# Altium schematic symbol library SCH - MCU - SI LABS - SI LABS MGM240PA32VNA 36-PIN LGA 12.9X15.SchLib: 1 symbol
Pins are listed as number, name and electrical type; pins without a type are passive.

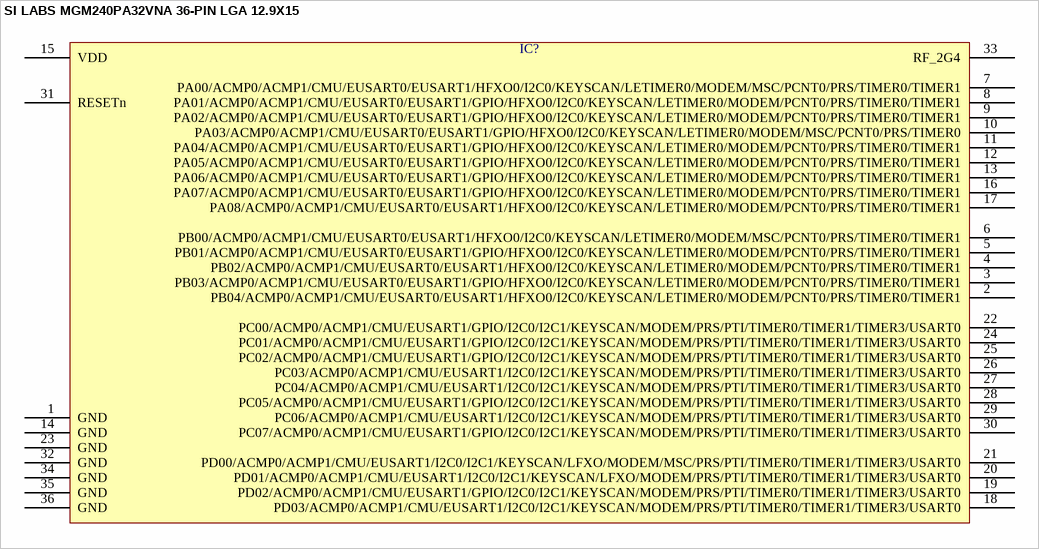
[diagram p0: symbol SI LABS MGM240PA32VNA 36-PIN LGA 12.9X15]

## SI LABS MGM240PA32VNA 36-PIN LGA 12.9X15
designator IC?  (value not drawn)
pins: 1 GND, 2 PB04/ACMP0/ACMP1/CMU/EUSART0/EUSART1/HFXO0/I2C0/KEYSCAN/LETIMER0/MODEM/PCNT0/PRS/TIMER0/TIMER1, 3 PB03/ACMP0/ACMP1/CMU/EUSART0/EUSART1/GPIO/HFXO0/I2C0/KEYSCAN/LETIMER0/MODEM/PCNT0/PRS/TIMER0/TIMER1, 4 PB02/ACMP0/ACMP1/CMU/EUSART0/EUSART1/HFXO0/I2C0/KEYSCAN/LETIMER0/MODEM/PCNT0/PRS/TIMER0/TIMER1, 5 PB01/ACMP0/ACMP1/CMU/EUSART0/EUSART1/GPIO/HFXO0/I2C0/KEYSCAN/LETIMER0/MODEM/PCNT0/PRS/TIMER0/TIMER1, 6 PB00/ACMP0/ACMP1/CMU/EUSART0/EUSART1/HFXO0/I2C0/KEYSCAN/LETIMER0/MODEM/MSC/PCNT0/PRS/TIMER0/TIMER1, 7 PA00/ACMP0/ACMP1/CMU/EUSART0/EUSART1/HFXO0/I2C0/KEYSCAN/LETIMER0/MODEM/MSC/PCNT0/PRS/TIMER0/TIMER1, 8 PA01/ACMP0/ACMP1/CMU/EUSART0/EUSART1/GPIO/HFXO0/I2C0/KEYSCAN/LETIMER0/MODEM/PCNT0/PRS/TIMER0/TIMER1, 9 PA02/ACMP0/ACMP1/CMU/EUSART0/EUSART1/GPIO/HFXO0/I2C0/KEYSCAN/LETIMER0/MODEM/PCNT0/PRS/TIMER0/TIMER1, 10 PA03/ACMP0/ACMP1/CMU/EUSART0/EUSART1/GPIO/HFXO0/I2C0/KEYSCAN/LETIMER0/MODEM/MSC/PCNT0/PRS/TIMER0, 11 PA04/ACMP0/ACMP1/CMU/EUSART0/EUSART1/GPIO/HFXO0/I2C0/KEYSCAN/LETIMER0/MODEM/PCNT0/PRS/TIMER0/TIMER1, 12 PA05/ACMP0/ACMP1/CMU/EUSART0/EUSART1/GPIO/HFXO0/I2C0/KEYSCAN/LETIMER0/MODEM/PCNT0/PRS/TIMER0/TIMER1, 13 PA06/ACMP0/ACMP1/CMU/EUSART0/EUSART1/GPIO/HFXO0/I2C0/KEYSCAN/LETIMER0/MODEM/PCNT0/PRS/TIMER0/TIMER1, 14 GND, 15 VDD, 16 PA07/ACMP0/ACMP1/CMU/EUSART0/EUSART1/GPIO/HFXO0/I2C0/KEYSCAN/LETIMER0/MODEM/PCNT0/PRS/TIMER0/TIMER1, 17 PA08/ACMP0/ACMP1/CMU/EUSART0/EUSART1/HFXO0/I2C0/KEYSCAN/LETIMER0/MODEM/PCNT0/PRS/TIMER0/TIMER1, 18 PD03/ACMP0/ACMP1/CMU/EUSART1/I2C0/I2C1/KEYSCAN/MODEM/PRS/PTI/TIMER0/TIMER1/TIMER3/USART0, 19 PD02/ACMP0/ACMP1/CMU/EUSART1/GPIO/I2C0/I2C1/KEYSCAN/MODEM/PRS/PTI/TIMER0/TIMER1/TIMER3/USART0, 20 PD01/ACMP0/ACMP1/CMU/EUSART1/I2C0/I2C1/KEYSCAN/LFXO/MODEM/PRS/PTI/TIMER0/TIMER1/TIMER3/USART0, 21 PD00/ACMP0/ACMP1/CMU/EUSART1/I2C0/I2C1/KEYSCAN/LFXO/MODEM/MSC/PRS/PTI/TIMER0/TIMER1/TIMER3/USART0, 22 PC00/ACMP0/ACMP1/CMU/EUSART1/GPIO/I2C0/I2C1/KEYSCAN/MODEM/PRS/PTI/TIMER0/TIMER1/TIMER3/USART0, 23 GND, 24 PC01/ACMP0/ACMP1/CMU/EUSART1/GPIO/I2C0/I2C1/KEYSCAN/MODEM/PRS/PTI/TIMER0/TIMER1/TIMER3/USART0, 25 PC02/ACMP0/ACMP1/CMU/EUSART1/GPIO/I2C0/I2C1/KEYSCAN/MODEM/PRS/PTI/TIMER0/TIMER1/TIMER3/USART0, 26 PC03/ACMP0/ACMP1/CMU/EUSART1/I2C0/I2C1/KEYSCAN/MODEM/PRS/PTI/TIMER0/TIMER1/TIMER3/USART0, 27 PC04/ACMP0/ACMP1/CMU/EUSART1/I2C0/I2C1/KEYSCAN/MODEM/PRS/PTI/TIMER0/TIMER1/TIMER3/USART0, 28 PC05/ACMP0/ACMP1/CMU/EUSART1/GPIO/I2C0/I2C1/KEYSCAN/MODEM/PRS/PTI/TIMER0/TIMER1/TIMER3/USART0, 29 PC06/ACMP0/ACMP1/CMU/EUSART1/I2C0/I2C1/KEYSCAN/MODEM/PRS/PTI/TIMER0/TIMER1/TIMER3/USART0, 30 PC07/ACMP0/ACMP1/CMU/EUSART1/GPIO/I2C0/I2C1/KEYSCAN/MODEM/PRS/PTI/TIMER0/TIMER1/TIMER3/USART0, 31 RESETn, 32 GND, 33 RF_2G4, 34 GND, 35 GND, 36 GND